# Altium integrated library Motorola Audio Tone Vol Bal Control.IntLib: 1 symbol
Pins are listed as number, name and electrical type; pins without a type are passive.

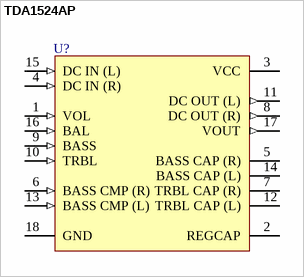
[diagram p0: symbol TDA1524AP]

## TDA1524AP
designator U?
Stereo Tone Control System; Published: 17-Jul-2002; LatestRevisionDate: 06-Jun-2005; LatestRevisionNote: Stylized 3D Model Added.; DatasheetVersion: 1988; PackageReference: 707-02; Publisher: Altium Limited; PackageDescription: DIP; 18 Leads; Row Spacing 7.62 mm; Pitch 2.54 mm
footprint 707-02 (DIP; 18 Leads; Row Spacing 7.62 mm; Pitch 2.54 mm)
3D model 707-02 (DIP; 18 Leads; Row Spacing 7.62 mm; Pitch 2.54 mm)
pins: 1 VOL (in), 2 REGCAP, 3 VCC (power), 4 DC IN (R) (in), 5 BASS CAP (R), 6 BASS CMP (R) (in), 7 TRBL CAP (R), 8 DC OUT (R) (out), 9 BASS (in), 10 TRBL (in), 11 DC OUT (L) (out), 12 TRBL CAP (L), 13 BASS CMP (L) (in), 14 BASS CAP (L), 15 DC IN (L) (in), 16 BAL (in), 17 VOUT (out), 18 GND (power)